# EAGLE library part CSD75205W1015 (library bqevm_additional_ti_ics)
According to: http://www.ti.com/lit/ds/symlink/csd75205w1015.pdf
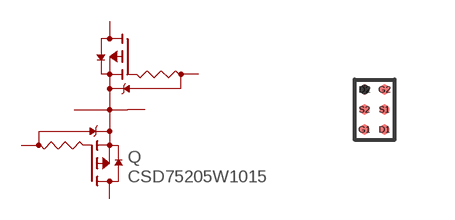
[diagram p6: symbol with the pads of CSD75205W1015; footprint CSD75205W1015]

Designator prefix Q

## CSD75205W1015-BGA  [CSD75205W1015]
D1  D1  pas
D2  D2  pas
G1  G1  pas
G2  G2  pas
S1  S1  pas
S2  S2  pas

## Footprint CSD75205W1015 (pad centres in mm)
According to: http://www.ti.com/lit/ds/symlink/csd75205w1015.pdf
smd 0.25 x 0.25: D1 0.25,-0.5; D2 -0.25,0.5; G1 -0.25,-0.5; G2 0.25,0.5; S1 0.25,0; S2 -0.25,0